# Altium footprint library bms_R00.PcbLib: 44 footprints (part 2 of 3)
Each footprint in its own frame and in the unit in brackets; x right, y up, seen from the top. Pads: shape width x height; smd on the part's side, far side on the other; paste and mask are expansions set on the pad; w line width, h text height; cw(c..) or ccw(c..) is an arc to the next point about the centre after c.
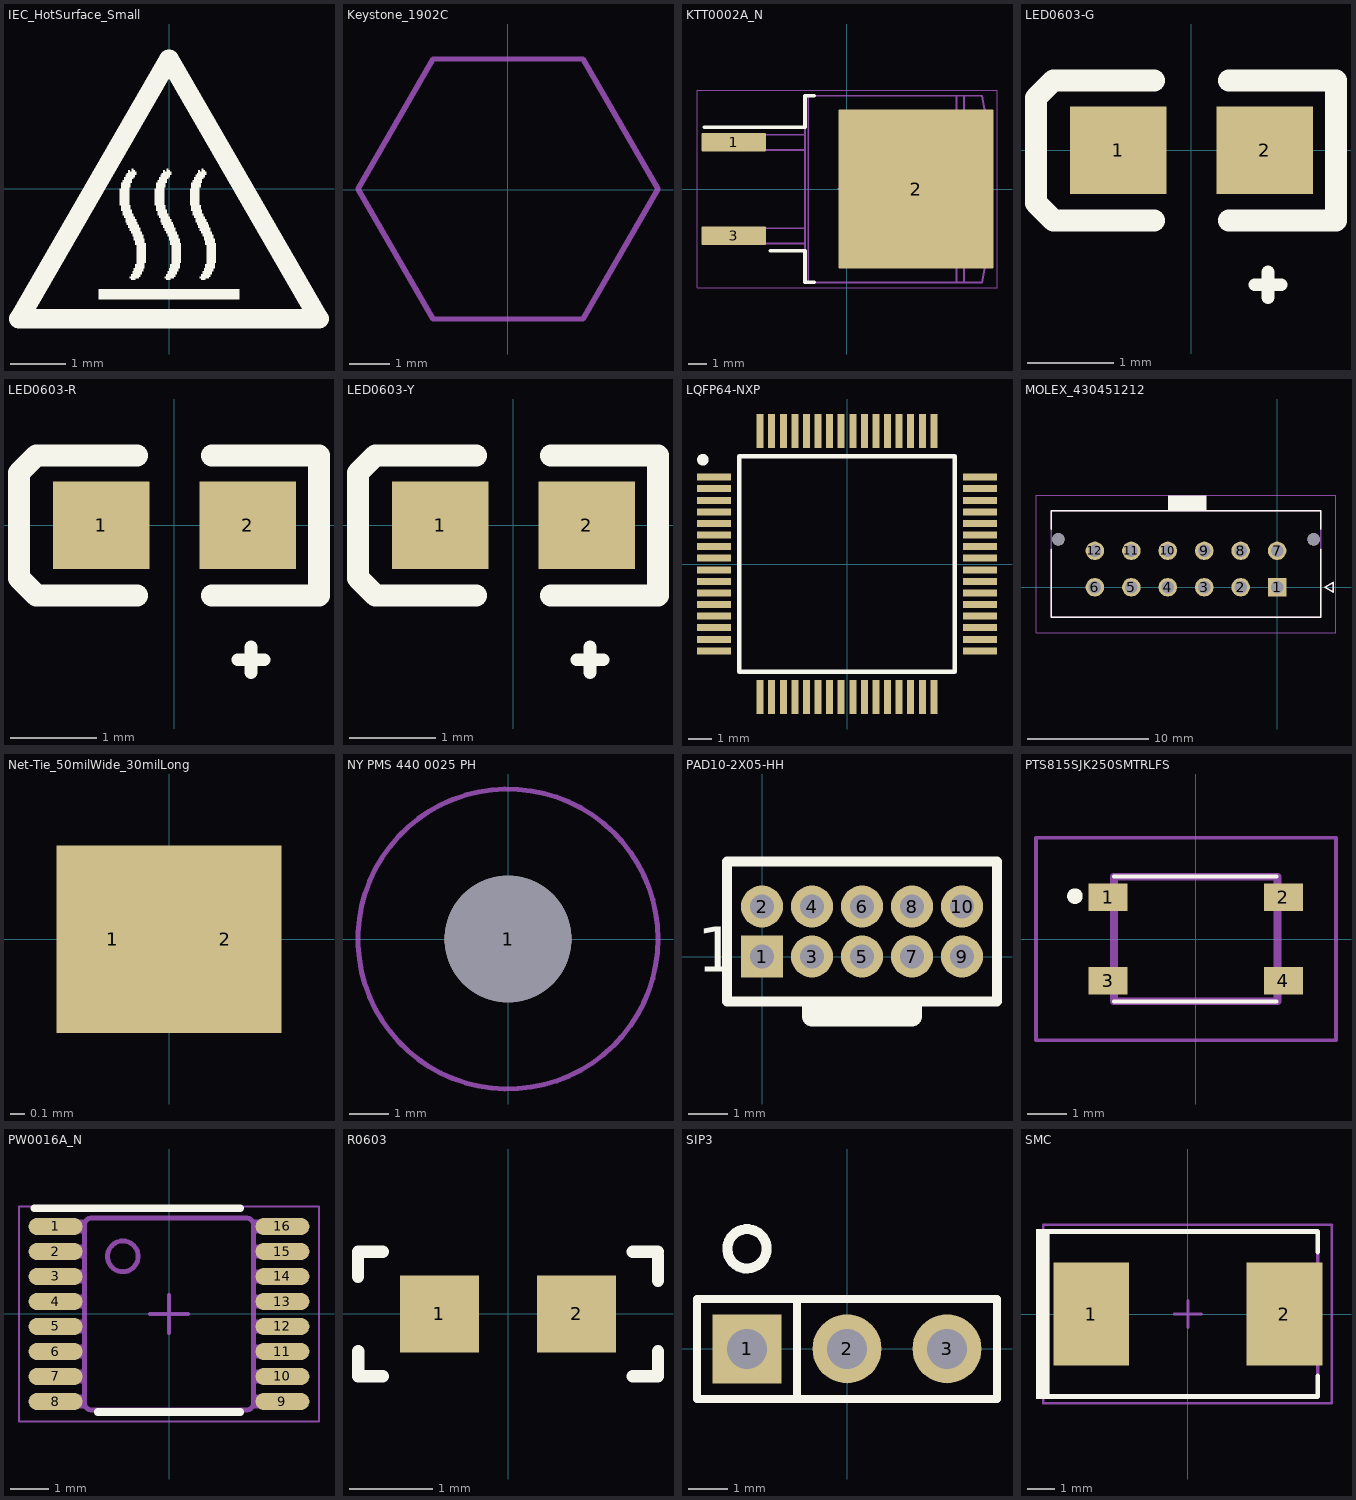
[diagram p1: the footprints below, top view; thin cyan lines are the x and y axes]

## IEC_HotSurface_Small [mm]
height 15.11
Top Overlay:
  drawing of 10 lines, arcs and shapes, not listed

## Keystone_1902C [mm]
height 15.11
Mechanical 5:
  lines w0.127: -3.69,0.012 -1.843,3.212 1.852,3.212 3.7,0.012 1.852,-3.188 -1.843,-3.188 -3.69,0.012
  text ".Designator" at -1.524,-0.508 h1.15
3D body "Keystone_1902C.stp": height 12.73, standoff 0.03, extent -3.682,-3.2 3.708,3.2

## KTT0002A_N [mm]
height 15.11
pads (3):
  rrect10% 3.5x1 smd: 1(-6.15,2.54) 3(-6.15,-2.54)
  rrect1% 8.4x8.65 smd paste-4.2: 2(3.75,0)
Top Overlay:
  lines w0.2: -7.75,3.35 -2.281,3.35 -2.281,5.071 -1.775,5.071 ; -4.175,-3.35 -2.281,-3.35 -2.281,-5.071 -1.775,-5.071
Top Paste:
  rectangle: 3.85,-0.48 4.93,0.48
  rectangle: 5.13,-0.48 6.21,0.48
  rectangle: 6.41,-0.48 7.49,0.48
  region: 1.09,0.48 0.01,0.48 0.01,-0.48 1.09,-0.48
  region: 2.37,0.48 1.29,0.48 1.29,-0.48 2.37,-0.48
  region: 3.65,0.48 2.57,0.48 2.57,-0.48 3.65,-0.48
  region: 3.65,1.76 2.57,1.76 2.57,0.8 3.65,0.8
  region: 2.37,1.76 1.29,1.76 1.29,0.8 2.37,0.8
  region: 1.09,1.76 0.01,1.76 0.01,0.8 1.09,0.8
  rectangle: 6.41,0.8 7.49,1.76
  rectangle: 5.13,0.8 6.21,1.76
  rectangle: 3.85,0.8 4.93,1.76
  rectangle: 3.85,2.08 4.93,3.04
  rectangle: 5.13,2.08 6.21,3.04
  rectangle: 6.41,2.08 7.49,3.04
  region: 1.09,3.04 0.01,3.04 0.01,2.08 1.09,2.08
  region: 2.37,3.04 1.29,3.04 1.29,2.08 2.37,2.08
  region: 3.65,3.04 2.57,3.04 2.57,2.08 3.65,2.08
  region: 3.65,4.32 2.57,4.32 2.57,3.36 3.65,3.36
  region: 2.37,4.32 1.29,4.32 1.29,3.36 2.37,3.36
  region: 1.09,4.32 0.01,4.32 0.01,3.36 1.09,3.36
  rectangle: 6.41,3.36 7.49,4.32
  rectangle: 5.13,3.36 6.21,4.32
  rectangle: 3.85,3.36 4.93,4.32
  rectangle: 3.85,-4.32 4.93,-3.36
  rectangle: 5.13,-4.32 6.21,-3.36
  rectangle: 6.41,-4.32 7.49,-3.36
  region: 1.09,-3.36 0.01,-3.36 0.01,-4.32 1.09,-4.32
  region: 2.37,-3.36 1.29,-3.36 1.29,-4.32 2.37,-4.32
  region: 3.65,-3.36 2.57,-3.36 2.57,-4.32 3.65,-4.32
  region: 3.65,-2.08 2.57,-2.08 2.57,-3.04 3.65,-3.04
  region: 2.37,-2.08 1.29,-2.08 1.29,-3.04 2.37,-3.04
  region: 1.09,-2.08 0.01,-2.08 0.01,-3.04 1.09,-3.04
  rectangle: 6.41,-3.04 7.49,-2.08
  rectangle: 5.13,-3.04 6.21,-2.08
  rectangle: 3.85,-3.04 4.93,-2.08
  rectangle: 3.85,-1.76 4.93,-0.8
  rectangle: 5.13,-1.76 6.21,-0.8
  rectangle: 6.41,-1.76 7.49,-0.8
  region: 1.09,-0.8 0.01,-0.8 0.01,-1.76 1.09,-1.76
  region: 2.37,-0.8 1.29,-0.8 1.29,-1.76 2.37,-1.76
  region: 3.65,-0.8 2.57,-0.8 2.57,-1.76 3.65,-1.76
Mechanical 5:
  lines w0.1: -2.103,-5.089 -2.103,5.071 ; -2.103,-5.089 5.95,-5.089 ; -2.103,-5.089 -2.281,-5.089 -2.281,5.071 -2.103,5.071 ; -2.103,5.071 5.95,5.071 ; 5.95,-5.089 6.355,-5.089 ; 5.95,-5.089 5.95,5.071 ; 5.95,5.071 6.355,5.071 ; 6.355,-5.089 6.355,-3.565 ; 6.355,-5.089 7.334,-5.089 7.625,-3.438 7.625,3.42 7.334,5.071 6.355,5.071 ; 6.355,-5.089 6.355,-3.565 ; 6.355,-3.565 6.355,3.547 ; 6.355,3.547 6.355,5.071 ; 6.355,3.547 6.355,5.071 ; -6.675,-2.968 -5.811,-2.968 -5.06,-2.968 -4.852,-2.968 -3.651,-2.968 -2.281,-2.968 -2.281,-2.13 -3.651,-2.13 -4.852,-2.13 -5.06,-2.13 -5.811,-2.13 -6.675,-2.13 -6.675,-2.968 ; -6.675,2.112 -5.811,2.112 -5.06,2.112 -4.852,2.112 -3.651,2.112 -2.281,2.112 -2.281,2.95 -3.651,2.95 -4.852,2.95 -5.06,2.95 -5.811,2.95 -6.675,2.95 -6.675,2.112
Mechanical 15:
  lines w0.05: -8.15,-5.375 8.15,-5.375 8.15,5.375 -8.15,5.375 -8.15,-5.375
  lines w0.1: -0.5,0 0.5,0 ; 0,-0.5 0,0.5
3D body "KTT0002A.stp": height 4.72, standoff 0, extent -6.682,-5.08 7.618,5.08

## LED0603-G [mil] "Diode; Body 1.6 x 0.8 mm (LxW typ)"
height 23.62
pads (2):
  rect 44x40 smd: 1(-33.47,0) 2(33.47,0)
Top Overlay:
  lines w5.91: 28.98,-61.34 40.79,-61.34 ; 34.88,-67.24 34.88,-55.43
  lines w10: -17,-32 -63,-32 -71,-24 -71,24 -63,32 -17,32 ; 17,-32 66,-32 66,32 17,32
3D body "User Library-LED_0603_G.STEP": height 23.62, standoff -0.08, extent -31.49,-15.74 31.5,15.75

## LED0603-R [mil] "Diode; Body 1.6 x 0.8 mm (LxW typ)"
height 23.62
pads (2):
  rect 44x40 smd: 1(-33.47,0) 2(33.47,0)
Top Overlay:
  lines w5.91: 28.98,-61.34 40.79,-61.34 ; 34.88,-67.24 34.88,-55.43
  lines w10: -17,-32 -63,-32 -71,-24 -71,24 -63,32 -17,32 ; 17,-32 66,-32 66,32 17,32
3D body "User Library-LED_0603_R.STEP": height 23.62, standoff -0.08, extent -31.49,-15.74 31.5,15.75

## LED0603-Y [mil] "Diode; Body 1.6 x 0.8 mm (LxW typ)"
height 23.62
pads (2):
  rect 44x40 smd: 1(-33.47,0) 2(33.47,0)
Top Overlay:
  lines w5.91: 28.98,-61.34 40.79,-61.34 ; 34.88,-67.24 34.88,-55.43
  lines w10: -17,-32 -63,-32 -71,-24 -71,24 -63,32 -17,32 ; 17,-32 66,-32 66,32 17,32
3D body "User Library-LED_0603_Y.STEP": height 23.62, standoff -0.08, extent -31.49,-15.74 31.5,15.75

## LQFP64-NXP [mm]
height 15.11
pads (64):
  rect 1.475x0.3 smd paste-0.03 mask+0.055: 1(-5.738,3.75) 2(-5.738,3.25) 3(-5.738,2.75) 4(-5.738,2.25) 5(-5.738,1.75) 6(-5.738,1.25) 7(-5.738,0.75) 8(-5.738,0.25) 9(-5.738,-0.25) 10(-5.738,-0.75) 11(-5.738,-1.25) 12(-5.738,-1.75) 13(-5.738,-2.25) 14(-5.738,-2.75) 15(-5.738,-3.25) 16(-5.738,-3.75) 33(5.738,-3.75) 34(5.738,-3.25) 35(5.738,-2.75) 36(5.738,-2.25) 37(5.738,-1.75) 38(5.738,-1.25) 39(5.738,-0.75) 40(5.738,-0.25) 41(5.738,0.25) 42(5.738,0.75) 43(5.738,1.25) 44(5.738,1.75) 45(5.738,2.25) 46(5.738,2.75) 47(5.738,3.25) 48(5.738,3.75)
  rect 0.3x1.475 smd paste-0.03 mask+0.055: 17(-3.75,-5.738) 18(-3.25,-5.738) 19(-2.75,-5.738) 20(-2.25,-5.738) 21(-1.75,-5.738) 22(-1.25,-5.738) 23(-0.75,-5.738) 24(-0.25,-5.738) 25(0.25,-5.738) 26(0.75,-5.738) 27(1.25,-5.738) 28(1.75,-5.738) 29(2.25,-5.738) 30(2.75,-5.738) 31(3.25,-5.738) 32(3.75,-5.738) 49(3.75,5.738) 50(3.25,5.738) 51(2.75,5.738) 52(2.25,5.738) 53(1.75,5.738) 54(1.25,5.738) 55(0.75,5.738) 56(0.25,5.738) 57(-0.25,5.738) 58(-0.75,5.738) 59(-1.25,5.738) 60(-1.75,5.738) 61(-2.25,5.738) 62(-2.75,5.738) 63(-3.25,5.738) 64(-3.75,5.738)
Top Overlay:
  circle w0.25: c-6.225,4.5 r0.125
  lines w0.2: -4.65,-4.65 -4.65,4.65 4.65,4.65 4.65,-4.65 -4.65,-4.65
3D body "FS32K118LAT0MLHT.stp": height 1.6, standoff 0, extent -6,-6 6,6

## MOLEX_430451212 [mm]
height 9.91
pads (14):
  rect 1.52x1.52 / inner round 1.52 / far side rect 1.52x1.52 hole 1.02 mask+0.076: 1(0,0)
  round 1.52 hole 1.02 mask+0.076: 2(-3,0) 3(-6,0) 4(-9,0) 5(-12,0) 6(-15,0) 7(0,3) 8(-3,3) 9(-6,3) 10(-9,3) 11(-12,3) 12(-15,3)
  round 1.02 hole 1.02 unplated mask+0.076: ""(-18,3.94) ""(3,3.94)
Top Overlay:
  rectangle: -8.986,6.35 -5.811,7.541
  lines w0.127: -18.575,3.11 -18.575,-2.47 3.575,-2.47 3.575,3.11 ; -18.575,4.77 -18.575,6.3 3.575,6.3 3.575,4.77 ; 3.93,0 4.63,-0.4 4.63,0.4 3.93,0
Mechanical 13:
  lines w0.127: -18.575,-2.47 -18.575,6.3 3.575,6.3 3.575,-2.47 -18.575,-2.47 ; 3.93,0 4.63,-0.4 4.63,0.4 3.93,0
Mechanical 15:
  lines w0.05: -19.845,-3.74 -19.845,7.57 4.845,7.57 4.845,-3.74 -19.845,-3.74
3D body "43045-1212--3DModel-STEP-56544.STEP": height 9.91, standoff -3.18, extent -18.594,-2.48 3.556,6.29

## Net-Tie_50milWide_30milLong [mil]
height 594.88
pads (2):
  rect 30x50 smd paste-20 mask-20: 1(-15,0) 2(15,0)

## NY PMS 440 0025 PH [mm]
height 15.11
pads (1):
  round 3.2 hole 3.2 unplated: 1(0,0)
Mechanical 5:
  circle w0.127: c0,0 r3.789
  text ".Designator" at -1.524,-0.508 h1.15
3D body "B_F_NY PMS 440 0025 PH.stp": height 2.69, standoff -8.74, extent -3.302,-3.3 3.296,3.3

## PAD10-2X05-HH [mil] "Header 2x5 paso 0.05\""
height 594.88
pads (10):
  rect 42x42 hole 24: 1(0,0)
  round 42 hole 24: 2(0,50) 3(50,0) 4(50,50) 5(100,0) 6(100,50) 7(150,0) 8(150,50) 9(200,0) 10(200,50)
Top Overlay:
  lines w10: -35,-45 235,-45 235,95 -35,95 -35,-45
  lines w20: 50,-50 50,-60 150,-60 150,-50
  text "1" at -65,-15 h45.28
3D body "User Library-PLLD1_27-xxPLLD1_27-10.STEP": height 185.04, standoff -102.36, extent -25,-33.11 225,85

## PTS815SJK250SMTRLFS [mm]
height 15.11
pads (4):
  rect 1x0.7 smd: 1(-2.25,1.075) 2(2.25,1.075) 3(-2.25,-1.075) 4(2.25,-1.075)
Top Overlay:
  lines w0.1: -2.1,-1.6 2.075,-1.6 ; -2.1,1.6 2.075,1.6
  lines w0.2: -3.1,1 cw(c-3.1,1.1) -3.1,1.2 cw(c-3.1,1.1) -3.1,1
Mechanical 15:
  lines w0.2: -2.1,-1.6 2.1,-1.6 2.1,1.6 -2.1,1.6 -2.1,-1.6
Mechanical 16:
  lines w0.1: -4.1,-2.6 3.6,-2.6 3.6,2.6 -4.1,2.6 -4.1,-2.6
3D body: height 0.25, standoff 0, extent -2.032,2.032 -2.032,2.032
3D body "PTS815_SJK_250_SMTR_LFS.stp": height 2.5, standoff 0, extent -2.3,-1.6 2.3,1.6

## PW0016A_N [mm]
height 15.11
pads (16):
  oval 1.4x0.45 smd: 1(-2.95,2.275) 2(-2.95,1.625) 3(-2.95,0.975) 4(-2.95,0.325) 5(-2.95,-0.325) 6(-2.95,-0.975) 7(-2.95,-1.625) 8(-2.95,-2.275) 9(2.95,-2.275) 10(2.95,-1.625) 11(2.95,-0.975) 12(2.95,-0.325) 13(2.95,0.325) 14(2.95,0.975) 15(2.95,1.625) 16(2.95,2.275)
Top Overlay:
  lines w0.2: -3.5,2.75 1.85,2.75 ; -1.85,-2.55 1.85,-2.55
Mechanical 5:
  drawing of 202 lines, arcs and shapes, not listed
  text ".Designator" at 0.559,0.483 h1.15
Mechanical 15:
  lines w0.05: -3.9,-2.8 3.9,-2.8 3.9,2.8 -3.9,2.8 -3.9,-2.8
  lines w0.1: -0.5,0 0.5,0 ; 0,-0.5 0,0.5
3D body "PW0016A.stp": height 1, standoff 0, extent -3.21,-2.5 3.21,2.5

## R0603 [mm]
height 15.11
pads (2):
  rect 0.95x0.925 smd mask+0.051: 1(-0.825,0) 2(0.825,0)
Top Overlay:
  lines w0.15: -1.805,-0.75 -1.505,-0.75 ; -1.805,0.45 -1.805,0.75 -1.505,0.75 ; -1.804,-0.45 -1.8,-0.75 ; 1.5,-0.75 1.8,-0.75 ; 1.5,0.75 1.8,0.75 ; 1.805,-0.75 1.805,-0.45 ; 1.805,0.4 1.805,0.7
3D body "User Library-0603(1608M) Res.STEP": height 0.79, standoff 0, extent -1,-0.394 1,0.394

## SIP3 [mm]
height 15.11
pads (3):
  rect 1.75x1.75 hole 1.016: 1(-2.54,0)
  round 1.75 hole 1.016: 2(0,0) 3(2.54,0)
Top Overlay:
  lines w0.2: -1.27,-1.27 -1.27,1.27 ; -3.81,-1.27 -3.81,1.27 3.81,1.27 3.81,-1.27 -3.81,-1.27
  lines w0.254: -2.043,2.598 ccw(c-2.54,2.54) -2.04,2.54
3D body "SIP3.step": height 8.38, standoff -2.54, extent -3.81,-1.295 3.81,1.245

## SMC [mil]
height 594.88
pads (2):
  rect 110x150 smd: 1(-140.49,0) 2(140.49,0)
Top Overlay:
  rectangle: -221.03,-123.5 -201.03,123.5
  lines w7: -210,-120 189,-120 189,-90.25 ; -210,120 189,120 189,90.25
Mechanical 5:
  rectangle: -221.03,-123.5 -201.03,123.5
  lines w5: -210,-120 189,-120 189,120 -210,120
  text ".Designator" at -85,-20 h45.28
Mechanical 15:
  lines w3.94: -19.69,0 19.68,0 ; 0,-19.68 0,19.68 ; -210.46,-129.92 209.38,-129.92 209.38,129.92 -210.46,129.92 -210.46,-129.92
3D body "SMC_nominal.stp": height 91.35, standoff 0.6, extent -156.49,-116.13 156.5,116.15